# Altium schematic symbol library Pulse.SchLib: 3 symbols
Pins are listed as number, name and electrical type; pins without a type are passive.

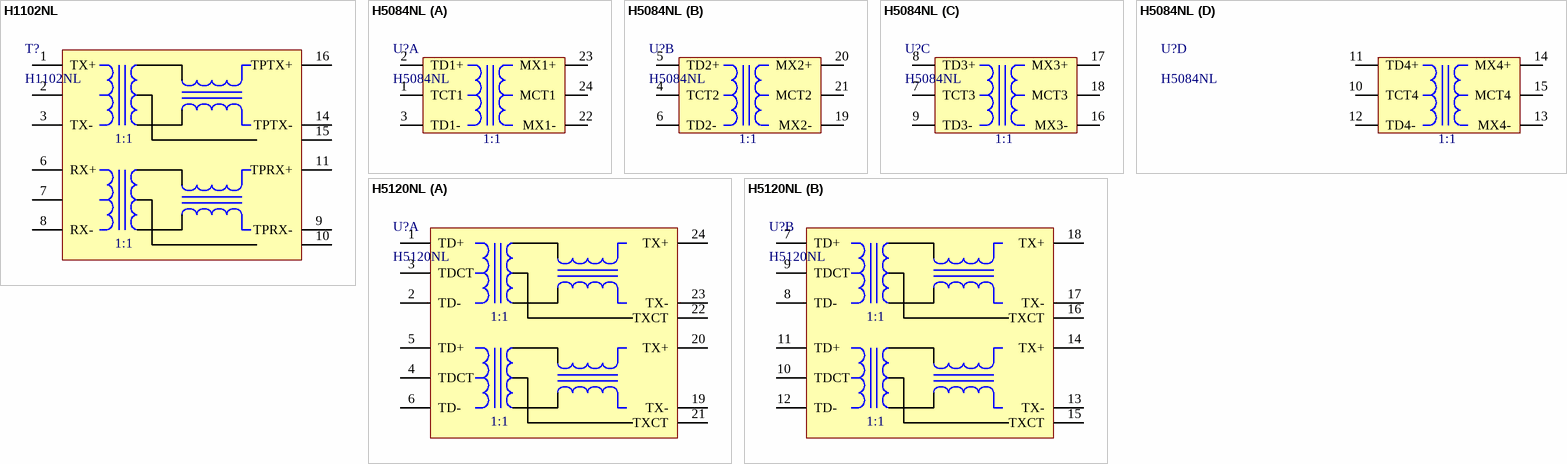
[diagram p0: symbols H1102NL to H5120NL]

## H1102NL
designator T?
10/100BASE-T SINGLE PORT / SURFACE MOUNT MAGNETICS
footprint H1102NL
pins: 1 TX+, 2, 3 TX-, 6 RX+, 7, 8 RX-, 9 TPRX-, 10, 11 TPRX+, 14 TPTX-, 15, 16 TPTX+
text: 1:1

## H5084NL
designator U?
1000BASE-T / MAGNETICS MODULES
footprint H5084NL
part A pins: 1 TCT1, 2 TD1+, 3 TD1-, 22 MX1-, 23 MX1+, 24 MCT1
part B pins: 4 TCT2, 5 TD2+, 6 TD2-, 19 MX2-, 20 MX2+, 21 MCT2
part C pins: 7 TCT3, 8 TD3+, 9 TD3-, 16 MX3-, 17 MX3+, 18 MCT3
part D pins: 10 TCT4, 11 TD4+, 12 TD4-, 13 MX4-, 14 MX4+, 15 MCT4
part A text: 1:1
part B text: 1:1
part C text: 1:1
part D text: 1:1

## H5120NL
designator U?
千兆以太网变压器
footprint H5120NL
part A pins: 1 TD+, 2 TD-, 3 TDCT, 4 TDCT, 5 TD+, 6 TD-, 19 TX-, 20 TX+, 21 TXCT, 22 TXCT, 23 TX-, 24 TX+
part B pins: 7 TD+, 8 TD-, 9 TDCT, 10 TDCT, 11 TD+, 12 TD-, 13 TX-, 14 TX+, 15 TXCT, 16 TXCT, 17 TX-, 18 TX+
part A text: 1:1
part B text: 1:1